# Altium footprint library QFN16-SPE-TPS2590.PcbLib: 1 footprints
Each footprint in its own frame and in the unit in brackets; x right, y up, seen from the top. Pads: shape width x height; smd on the part's side, far side on the other; paste and mask are expansions set on the pad; w line width, h text height; cw(c..) or ccw(c..) is an arc to the next point about the centre after c.
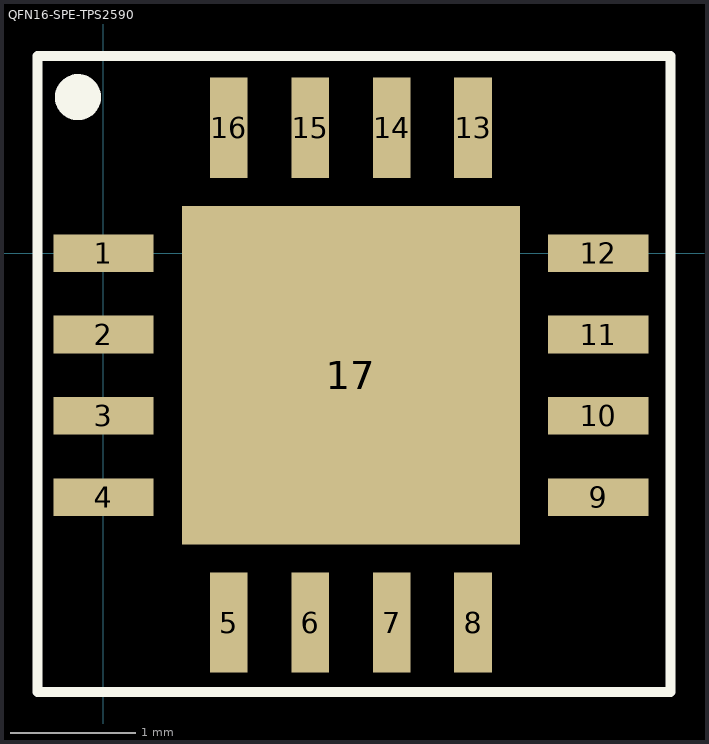
[diagram p0: the footprint, top view; thin cyan lines are the x and y axes]

## QFN16-SPE-TPS2590 [mm]
pads (17):
  rect 0.8x0.3 smd mask+0.07: 1(0,0) 2(0,-0.65) 3(0,-1.3) 4(0,-1.95) 9(3.95,-1.95) 10(3.95,-1.3) 11(3.95,-0.65) 12(3.95,0)
  rect 0.3x0.8 smd mask+0.07: 5(1,-2.95) 6(1.65,-2.95) 7(2.3,-2.95) 8(2.95,-2.95) 13(2.95,1) 14(2.3,1) 15(1.65,1) 16(1,1)
  rect 2.7x2.7 smd paste-2 mask+0.07: 17(1.975,-0.975)
Top Overlay:
  circle w0.254: c-0.203,1.245 r0.057
  lines w0.08: -0.525,-3.505 4.525,-3.505 4.525,1.575 -0.525,1.575 -0.525,-3.505
Top Paste:
  rectangle: 0.762,-0.746 1.762,0.254
  region: 1.746,-2.188 1.746,-1.188 0.746,-1.188 0.746,-2.188
  region: 3.188,-1.204 2.188,-1.204 2.188,-2.204 3.188,-2.204
  region: 2.204,0.238 2.204,-0.762 3.204,-0.762 3.204,0.238
3D body: height 0.92, standoff 0, extent -0.019,-2.99 3.981,1.01